# Altium schematic symbol library SchLib_Main.SchLib: 425 symbols (part 11 of 11)
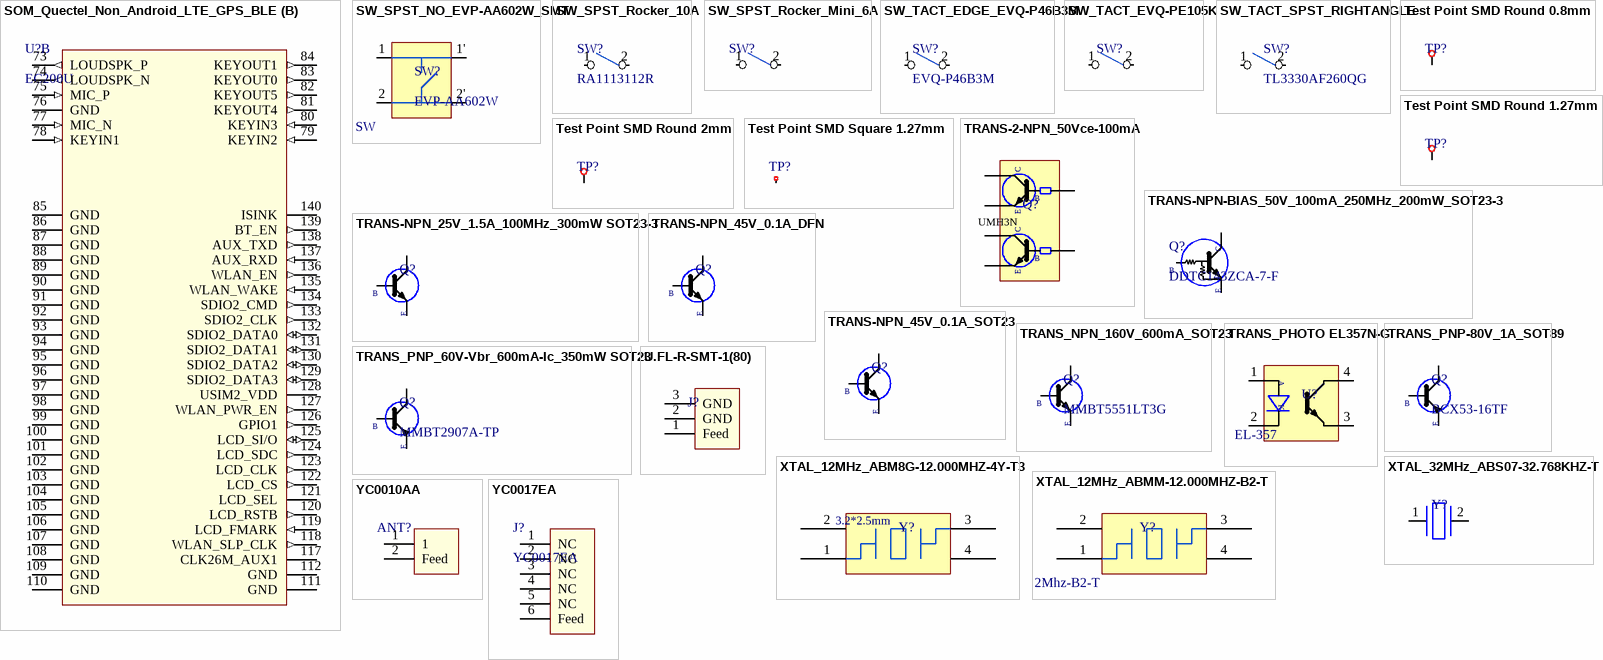
[diagram p26: symbols SOM_Quectel_Non_Android_LTE_GPS_BLE to YC0017EA]

## XTAL_12MHz_ABM8G-12.000MHZ-4Y-T3
designator Y?, comment 12MHz  (value not drawn)
Crystal 12MHz ±30ppm (Tol) ±30ppm (Stability) 10pF FUND 120Ohm 4-Pin Ultra Mini-CSMD T/R; Manufacturer 1: Abracon; Manufacturer Part Number 1: ABM8G-12.000MHZ-4Y-T3; ESR (Equivalent Series Resistance): 120R; ComponentLink1URL: https://datasheet.ciiva.com/15116/getdatasheetpartid-719872-15116768.pdf?src-supplier=Verical; ComponentLink1Description: https://datasheet.ciiva.com/15116/getdatasheetpartid-719872-15116768.pdf?src-supplier=Verical; ComponentLink2URL: https://datasheet.ciiva.com/857/abm8g-857960.pdf?src-supplier=Digi-Key; ComponentLink2Description: https://datasheet.ciiva.com/857/abm8g-857960.pdf?src-supplier=Digi-Key; ComponentLink3URL: https://datasheet.ciiva.com/857/abm8g-857959.pdf?src-supplier=Digi-Key; ComponentLink3Description: https://datasheet.ciiva.com/857/abm8g-857959.pdf?src-supplier=Digi-Key; ComponentLink4URL: https://datasheet.ciiva.com/857/abm8g-857961.pdf?src-supplier=Digi-Key; ComponentLink4Description: https://datasheet.ciiva.com/857/abm8g-857961.pdf?src-supplier=Digi-Key; ComponentLink5URL: https://datasheet.ciiva.com/16216/abm8g-16216655.pdf?src-supplier=Future+Electronics; ComponentLink5Description: https://datasheet.ciiva.com/16216/abm8g-16216655.pdf?src-supplier=Future+Electronics; Supplier 1: Digi-Key; RoHS: Yes; Category: Crystals; Stock 1: 110440; Pricing 1: 1=0.33, 10=0.279, 50=0.251, 100=0.2231, 500=0.21194, 1000=0.17848 (USD); Mount: Surface Mount; Case/Package: CSMD; Number of Pins: 4; Min Operating Temperature: -10°C; Max Operating Temperature: 60°C; Frequency: 12MHz; Load Capacitance: 10pF; Packaging: Tape and Reel; Frequency Tolerance: 30ppm; Series Resistance: 120R; Frequency Stability: 30ppm; Series: ABM8G; Operating Frequency: 12 MHz; Length: 3.2mm; Width: 0.098inch; Height: 0.039inch; Depth: 2.5mm; Reach SVHC Compliant: No; Lead Free: Lead Free; Supplier Part Number 1: 535-10901-1-ND
footprint Crystall 3.2*2.5mm
pins: 1, 2, 3, 4
text: 3.2*2.5mm

## XTAL_12MHz_ABMM-12.000MHZ-B2-T
designator Y?, comment 12MHz  (value not drawn)
Crystal 12MHz ±20ppm (Tol) ±50ppm (Stability) 18pF FUND 50Ohm 4-Pin CSMD T/R; Manufacturer: Abracon; Manufacturer Part Number: ABMM-12.000MHZ-B2-T; Supplier 1: Future Electronics; RoHS: Yes; Category: Crystals; Stock 1: 15000; Pricing 1: 1000=0.625, 2000=0.61, 3000=0.6, 4000=0.59 (USD); ComponentLink1URL: https://datasheet.ciiva.com/855/abmm-855152.pdf?src-supplier=Avnet; ComponentLink1Description: https://datasheet.ciiva.com/855/abmm-855152.pdf?src-supplier=Avnet; ComponentLink2URL: https://datasheet.ciiva.com/4944/abmm-40073-4944812.pdf?src-supplier=Mouser; ComponentLink2Description: https://datasheet.ciiva.com/4944/abmm-40073-4944812.pdf?src-supplier=Mouser; ComponentLink3URL: https://datasheet.ciiva.com/855/abmm-855153.pdf?src-supplier=Digi-Key; ComponentLink3Description: https://datasheet.ciiva.com/855/abmm-855153.pdf?src-supplier=Digi-Key; ComponentLink4URL: https://datasheet.ciiva.com/855/abmm-855154.pdf?src-supplier=Digi-Key; ComponentLink4Description: https://datasheet.ciiva.com/855/abmm-855154.pdf?src-supplier=Digi-Key; ComponentLink5URL: https://datasheet.ciiva.com/855/abmm-855155.pdf?src-supplier=Digi-Key; ComponentLink5Description: https://datasheet.ciiva.com/855/abmm-855155.pdf?src-supplier=Digi-Key; ComponentLink6URL: https://datasheet.ciiva.com/1357/abmm-1357313.pdf?src-supplier=Element14; ComponentLink6Description: https://datasheet.ciiva.com/1357/abmm-1357313.pdf?src-supplier=Element14; ComponentLink7URL: https://datasheet.ciiva.com/7998/abmm-7998647.pdf?src-supplier=Element14; ComponentLink7Description: https://datasheet.ciiva.com/7998/abmm-7998647.pdf?src-supplier=Element14
pins: 1, 2, 3, 4
text: ABMM-12Mhz-B2-T

## XTAL_32MHz_ABS07-32.768KHZ-T
designator Y?, comment 32KHz  (value not drawn)
Crystal 0.032768MHz ±20ppm (Tol) 12.5pF Flexural 70000Ohm 2-Pin CSMD T/R; Manufacturer: Abracon; Manufacturer Part Number: ABS07-32.768KHZ-T; ESR (Equivalent Series Resistance): 70kR; Frequency: 32.768kHz; Operating Frequency: 32.768 kHz; Supplier 1: Future Electronics; RoHS: Yes; Category: Crystals; Stock 1: 461; Pricing 1: 1=0.675, 15=0.585, 75=0.53, 300=0.48, 1500=0.425 (USD); Case/Package: CSMD; Number of Pins: 2; Min Operating Temperature: -40°C; Max Operating Temperature: 85°C; Frequency Tolerance: 20ppm; Load Capacitance: 12.5pF; Packaging: Tape and Reel; Series: ABS07; Package Quantity: 3000; Tolerance: 20ppm; Termination: SMD/SMT; Series Resistance: 70kR; Length: 3.2mm; Width: 1.5mm; Height: 0.9mm; Depth: 1.5mm; Radiation Hardening: No; Lead Free: Lead Free; RoHS Compliant: Yes; Reach SVHC Compliant: No; ComponentLink1URL: https://datasheet.ciiva.com/7998/1912628-7998667.pdf?src-supplier=Element14; ComponentLink1Description: https://datasheet.ciiva.com/7998/1912628-7998667.pdf?src-supplier=Element14; ComponentLink2URL: https://datasheet.ciiva.com/1357/1883680-1357319.pdf?src-supplier=Element14; ComponentLink2Description: https://datasheet.ciiva.com/1357/1883680-1357319.pdf?src-supplier=Element14; ComponentLink3URL: https://datasheet.ciiva.com/854/abs07-854936.pdf?src-supplier=Digi-Key; ComponentLink3Description: https://datasheet.ciiva.com/854/abs07-854936.pdf?src-supplier=Digi-Key; ComponentLink4URL: https://datasheet.ciiva.com/854/abs07-854935.pdf?src-supplier=Digi-Key; ComponentLink4Description: https://datasheet.ciiva.com/854/abs07-854935.pdf?src-supplier=Digi-Key; ComponentLink5URL: https://datasheet.ciiva.com/854/abs07-854937.pdf?src-supplier=Digi-Key; ComponentLink5Description: https://datasheet.ciiva.com/854/abs07-854937.pdf?src-supplier=Digi-Key; ComponentLink6URL: https://datasheet.ciiva.com/4944/abs07-11028-4944830.pdf?src-supplier=Mouser; ComponentLink6Description: https://datasheet.ciiva.com/4944/abs07-11028-4944830.pdf?src-supplier=Mouser; ComponentLink7URL: https://datasheet.ciiva.com/15214/getdatasheetpartid-727011-15214954.pdf?src-supplier=Verical; ComponentLink7Description: https://datasheet.ciiva.com/15214/getdatasheetpartid-727011-15214954.pdf?src-supplier=Verical
pins: 1 29, 2 30

## YC0010AA
designator ANT?
Manufacturer: Quectel Wireless Solutions; Manufacturer Part Number: YC0010AA; Supplier: Digikey; Supplier Part Number: 2958-YC0010AACT-ND; RoHS: No; Category: RF Antennas; Stock: 8553; Pricing: 1=0.55, 10=0.469, 25=0.4376, 100=0.35, 250=0.325, 500=0.275, 1000=0.2125 (USD)
footprint YC0010AA
pins: 1, 2 Feed

## YC0017EA
designator J?
Manufacturer: Quectel Wireless Solutions; Supplier: Digikey; Supplier Part Number: 2958-YC0017EACT-ND; Manufacturer Part Number: YC0017EA; RoHS: No; Category: Uncategorized; Stock: 2550; Pricing: 1=1.24, 10=1.106, 25=1.05, 100=0.8625, 250=0.80624, 500=0.7125 (USD)
footprint YC0017EA
pins: 1 NC, 2 NC, 3 NC, 4 NC, 5 NC, 6 Feed